# EAGLE library part PIC24F16KA102-I_SS (library PIC24F16KA102-I_SS)
MCU 16K Flash, Low Power XLP, SSOP28 Source: Datasheet <https://datasheet.datasheetarchive.com/originals/distributors/Datasheets-DGA18/354165.pdf>
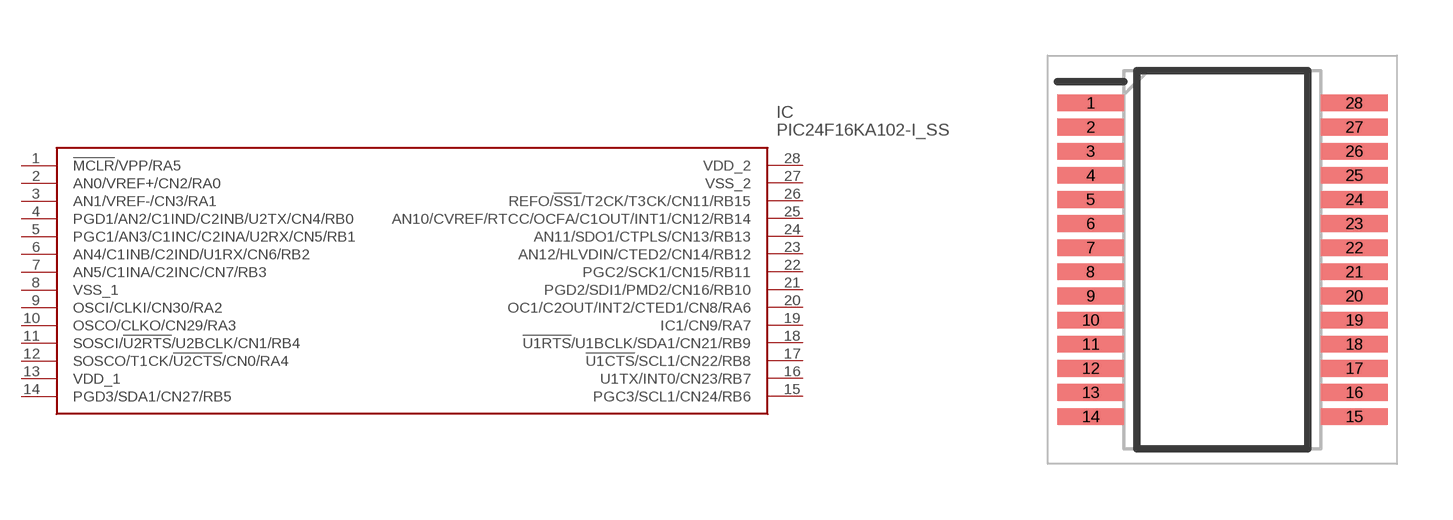
[diagram p0: symbol with the pads of SOP65P780X200-28N; footprint SOP65P780X200-28N]

Designator prefix IC

## PIC24F16KA102-I_SS (Description: MCU 16K Flash, Low Power XLP, SSOP28; Height: 2mm; Manufacturer_Name: Microchip; Manufacturer_Part_Number: PIC24F16KA102-I/SS; Mouser_Part_Number: 579-PIC24F16KA102ISS; Mouser_Price-Stock: https://www.mouser.co.uk/ProductDetail/Microchip-Technology/PIC24F16KA102-I-SS?qs=Fllw7YelV398eJbJvYt71A%3D%3D)  [SOP65P780X200-28N]
1  !MCLR!/VPP/RA5
2  AN0/VREF+/CN2/RA0
3  AN1/VREF-/CN3/RA1
4  PGD1/AN2/C1IND/C2INB/U2TX/CN4/RB0
5  PGC1/AN3/C1INC/C2INA/U2RX/CN5/RB1
6  AN4/C1INB/C2IND/U1RX/CN6/RB2
7  AN5/C1INA/C2INC/CN7/RB3
8  VSS_1
9  OSCI/CLKI/CN30/RA2
10  OSCO/CLKO/CN29/RA3
11  SOSCI/!U2RTS!/U2BCLK/CN1/RB4
12  SOSCO/T1CK/!U2CTS!/CN0/RA4
13  VDD_1
14  PGD3/SDA1/CN27/RB5
15  PGC3/SCL1/CN24/RB6
16  U1TX/INT0/CN23/RB7
17  !U1CTS!/SCL1/CN22/RB8
18  !U1RTS!/U1BCLK/SDA1/CN21/RB9
19  IC1/CN9/RA7
20  OC1/C2OUT/INT2/CTED1/CN8/RA6
21  PGD2/SDI1/PMD2/CN16/RB10
22  PGC2/SCK1/CN15/RB11
23  AN12/HLVDIN/CTED2/CN14/RB12
24  AN11/SDO1/CTPLS/CN13/RB13
25  AN10/CVREF/RTCC/OCFA/C1OUT/INT1/CN12/RB14
26  REFO/!SS1!/T2CK/T3CK/CN11/RB15
27  VSS_2
28  VDD_2

## Footprint SOP65P780X200-28N (pad centres in mm)
PIC24F16KA102-I/SS
smd 1.8 x 0.45: 1 -3.55,4.225; 2 -3.55,3.575; 3 -3.55,2.925; 4 -3.55,2.275; 5 -3.55,1.625; 6 -3.55,0.975; 7 -3.55,0.325; 8 -3.55,-0.325; 9 -3.55,-0.975; 10 -3.55,-1.625; 11 -3.55,-2.275; 12 -3.55,-2.925; 13 -3.55,-3.575; 14 -3.55,-4.225; 15 3.55,-4.225; 16 3.55,-3.575; 17 3.55,-2.925; 18 3.55,-2.275; 19 3.55,-1.625; 20 3.55,-0.975; 21 3.55,-0.325; 22 3.55,0.325; 23 3.55,0.975; 24 3.55,1.625; 25 3.55,2.275; 26 3.55,2.925; 27 3.55,3.575; 28 3.55,4.225